# Altium footprint library 2X7SegmentLCD.PcbLib: 1 footprints
Each footprint in its own frame and in the unit in brackets; x right, y up, seen from the top. Pads: shape width x height; smd on the part's side, far side on the other; paste and mask are expansions set on the pad; w line width, h text height; cw(c..) or ccw(c..) is an arc to the next point about the centre after c.
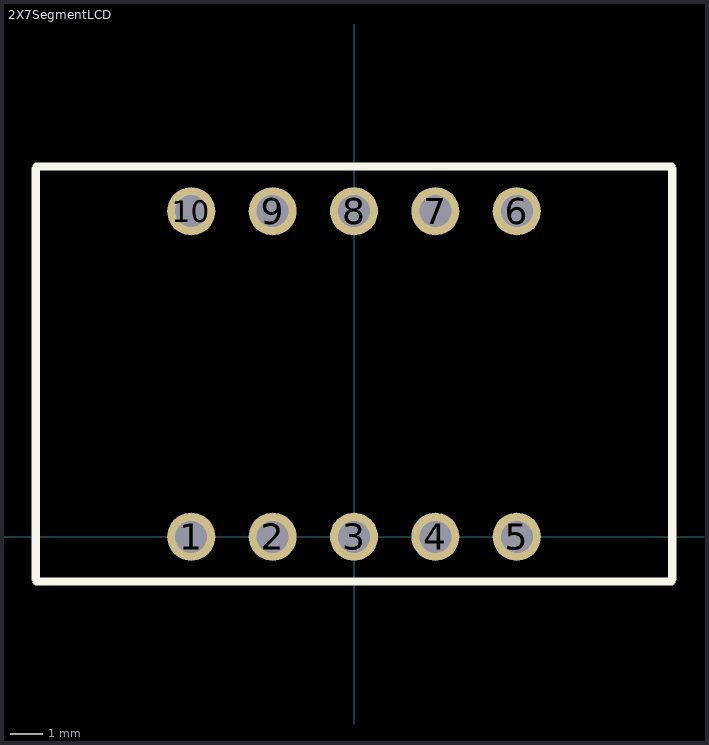
[diagram p0: the footprint, top view; thin cyan lines are the x and y axes]

## 2X7SegmentLCD [mm] "Digikey: 160-1539-5-ND"
height 7.112
pads (10):
  round 1.5 hole 1: 1(-5.08,0) 2(-2.54,0) 3(0,0) 4(2.54,0) 5(5.08,0) 6(5.08,10.16) 7(2.54,10.16) 8(0,10.16) 9(-2.54,10.16) 10(-5.08,10.16)
Top Overlay:
  lines w0.254: -9.93,-1.32 -9.93,11.48 ; -9.906,-1.397 9.906,-1.397 ; -9.906,11.557 9.906,11.557 ; 9.93,-1.32 9.93,11.48